# EAGLE library part TS3A5223 (library TS3A5223RSWR)
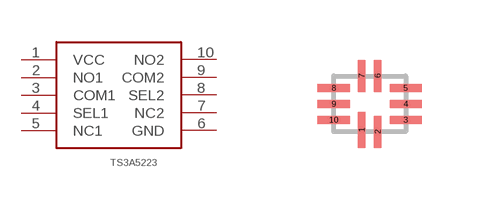
[diagram p0: symbol with the pads of TS3A5223-QFN; footprint TS3A5223-QFN]

Designator prefix -

## TS3A5223  [TS3A5223-QFN]
1  VCC
2  NO1
3  COM1
4  SEL1
5  NC1
6  GND
7  NC2
8  SEL2
9  COM2
10  NO2

## Footprint TS3A5223-QFN (pad centres in mm)
smd 0.2 x 0.9: 1 -0.2,-0.65
smd 0.2 x 0.8: 2 0.2,-0.7; 6 0.2,0.7; 7 -0.2,0.7
smd 0.8 x 0.2: 3 0.9,-0.4; 4 0.9,0; 5 0.9,0.4; 8 -0.9,0.4; 9 -0.9,0; 10 -0.9,-0.4